# EAGLE library part LTC4365 (library SaintGimp)
LTC4365 Overvoltage, Undervoltage and Reverse Supply Protection Controller
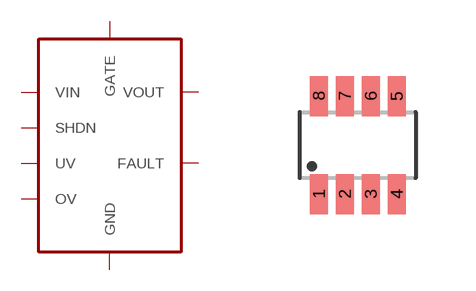
[diagram p6: symbol with the pads of SOT-23-8; footprint SOT-23-8]

Designator prefix Q

## LTC4365  [SOT-23-8]
1  VIN  pwr
2  UV  in
3  OV  in
4  GND  pas
5  SHDN  in
6  FAULT  out
7  VOUT  in
8  GATE  out

## Footprint SOT-23-8 (pad centres in mm)
smd 0.45 x 1: 1 -0.975,-1.225; 2 -0.325,-1.225; 3 0.325,-1.225; 4 0.975,-1.225; 5 0.975,1.225; 6 0.325,1.225; 7 -0.325,1.225; 8 -0.975,1.225